# Altium schematic symbol library liang_SCH.SCHLIB: 92 symbols
Pins are listed as number, name and electrical type; pins without a type are passive.

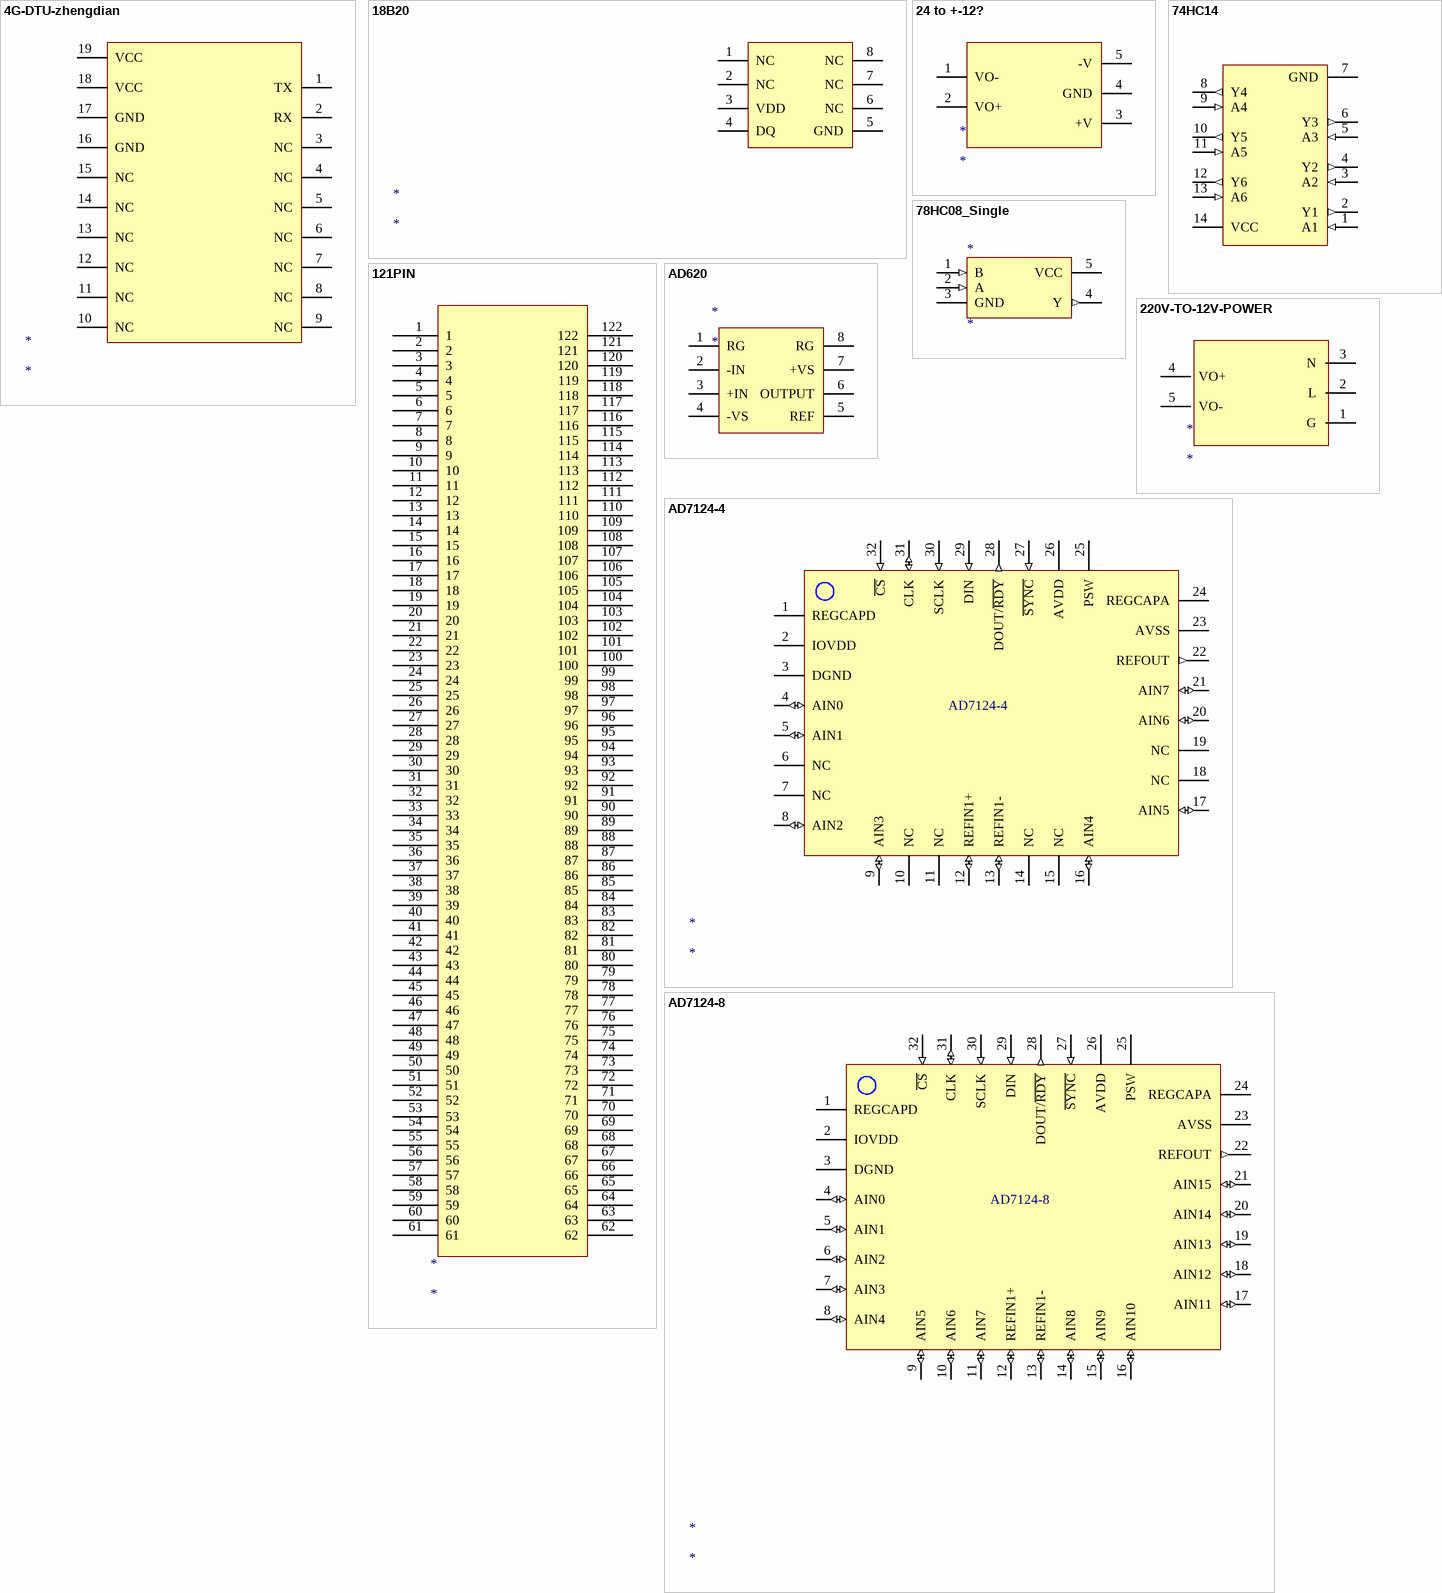
[diagram p0: symbols 4G-DTU-zhengdian to AD7124-8]

## 4G-DTU-zhengdian
designator *
pins: 1 TX (power), 2 RX (power), 3 NC (power), 4 NC (power), 5 NC (power), 6 NC (power), 7 NC (power), 8 NC (power), 9 NC (power), 10 NC (power), 11 NC (power), 12 NC (power), 13 NC (power), 14 NC (power), 15 NC (power), 16 GND (power), 17 GND (power), 18 VCC (power), 19 VCC (power)

## 18B20
designator *
pins: 1 NC (power), 2 NC (power), 3 VDD (power), 4 DQ (power), 5 GND (power), 6 NC (power), 7 NC (power), 8 NC (power)

## 24 to +-12?
designator *
pins: 1 VO- (power), 2 VO+ (power), 3 +V (power), 4 GND (power), 5 -V (power)

## 74HC14
designator *
pins: 1 A1 (in), 2 Y1 (out), 3 A2 (in), 4 Y2 (out), 5 A3 (in), 6 Y3 (out), 7 GND (power), 8 Y4 (out), 9 A4 (in), 10 Y5 (out), 11 A5 (in), 12 Y6 (out), 13 A6 (in), 14 VCC (power)

## 78HC08_Single
designator *
pins: 1 B (in), 2 A (in), 3 GND (power), 4 Y (out), 5 VCC (power)

## 121PIN
designator *
pins: 1 (power), 2 (power), 3 (power), 4 (power), 5 (power), 6 (power), 7 (power), 8 (power), 9 (power), 10 (power), 11 (power), 12 (power), 13 (power), 14 (power), 15 (power), 16 (power), 17 (power), 18 (power), 19 (power), 20 (power), 21 (power), 22 (power), 23 (power), 24 (power), 25 (power), 26 (power), 27 (power), 28 (power), 29 (power), 30 (power), 31 (power), 32 (power), 33 (power), 34 (power), 35 (power), 36 (power), 37 (power), 38 (power), 39 (power), 40 (power), 41 (power), 42 (power), 43 (power), 44 (power), 45 (power), 46 (power), 47 (power), 48 (power), 49 (power), 50 (power), 51 (power), 52 (power), 53 (power), 54 (power), 55 (power), 56 (power), 57 (power), 58 (power), 59 (power), 60 (power), 61 (power), 62 (power), 63 (power), 64 (power), 65 (power), 66 (power), 67 (power), 68 (power), 69 (power), 70 (power), 71 (power), 72 (power), 73 (power), 74 (power), 75 (power), 76 (power), 77 (power), 78 (power), 79 (power), 80 (power), 81 (power), 82 (power), 83 (power), 84 (power), 85 (power), 86 (power), 87 (power), 88 (power), 89 (power), 90 (power), 91 (power), 92 (power), 93 (power), 94 (power), 95 (power), 96 (power), 97 (power), 98 (power), 99 (power), 100 (power), 101 (power), 102 (power), 103 (power), 104 (power), 105 (power), 106 (power), 107 (power), 108 (power), 109 (power), 110 (power), 111 (power), 112 (power), 113 (power), 114 (power), 115 (power), 116 (power), 117 (power), 118 (power), 119 (power), 120 (power), 121 (power), 122 (power)

## 220V-TO-12V-POWER
designator *
pins: 1 G (power), 2 L (power), 3 N (power), 4 VO+ (power), 5 VO- (power)

## AD620
designator *
pins: 1 RG (power), 2 -IN (power), 3 +IN (power), 4 -VS (power), 5 REF (power), 6 OUTPUT (power), 7 +VS (power), 8 RG (power)

## AD7124-4
designator *
pins: 1 REGCAPD (power), 2 IOVDD (power), 3 DGND (power), 4 AIN0 (io), 5 AIN1 (io), 6 NC (oc), 7 NC (oc), 8 AIN2 (io), 9 AIN3 (io), 10 NC (oc), 11 NC (oc), 12 REFIN1+ (io), 13 REFIN1- (io), 14 NC (oc), 15 NC (oc), 16 AIN4 (io), 17 AIN5 (io), 18 NC (oc), 19 NC (oc), 20 AIN6 (io), 21 AIN7 (io), 22 REFOUT (out), 23 AVSS (power), 24 REGCAPA (power), 25 PSW (power), 26 AVDD (power), 27 ~{SYNC} (in), 28 DOUT/~{RDY} (out), 29 DIN (in), 30 SCLK (in), 31 CLK (io), 32 ~{CS} (in)

## AD7124-8
designator *
pins: 1 REGCAPD (power), 2 IOVDD (power), 3 DGND (power), 4 AIN0 (io), 5 AIN1 (io), 6 AIN2 (io), 7 AIN3 (io), 8 AIN4 (io), 9 AIN5 (io), 10 AIN6 (io), 11 AIN7 (io), 12 REFIN1+ (io), 13 REFIN1- (io), 14 AIN8 (io), 15 AIN9 (io), 16 AIN10 (io), 17 AIN11 (io), 18 AIN12 (io), 19 AIN13 (io), 20 AIN14 (io), 21 AIN15 (io), 22 REFOUT (out), 23 AVSS (power), 24 REGCAPA (power), 25 PSW (power), 26 AVDD (power), 27 ~{SYNC} (in), 28 DOUT/~{RDY} (out), 29 DIN (in), 30 SCLK (in), 31 CLK (io), 32 ~{CS} (in)

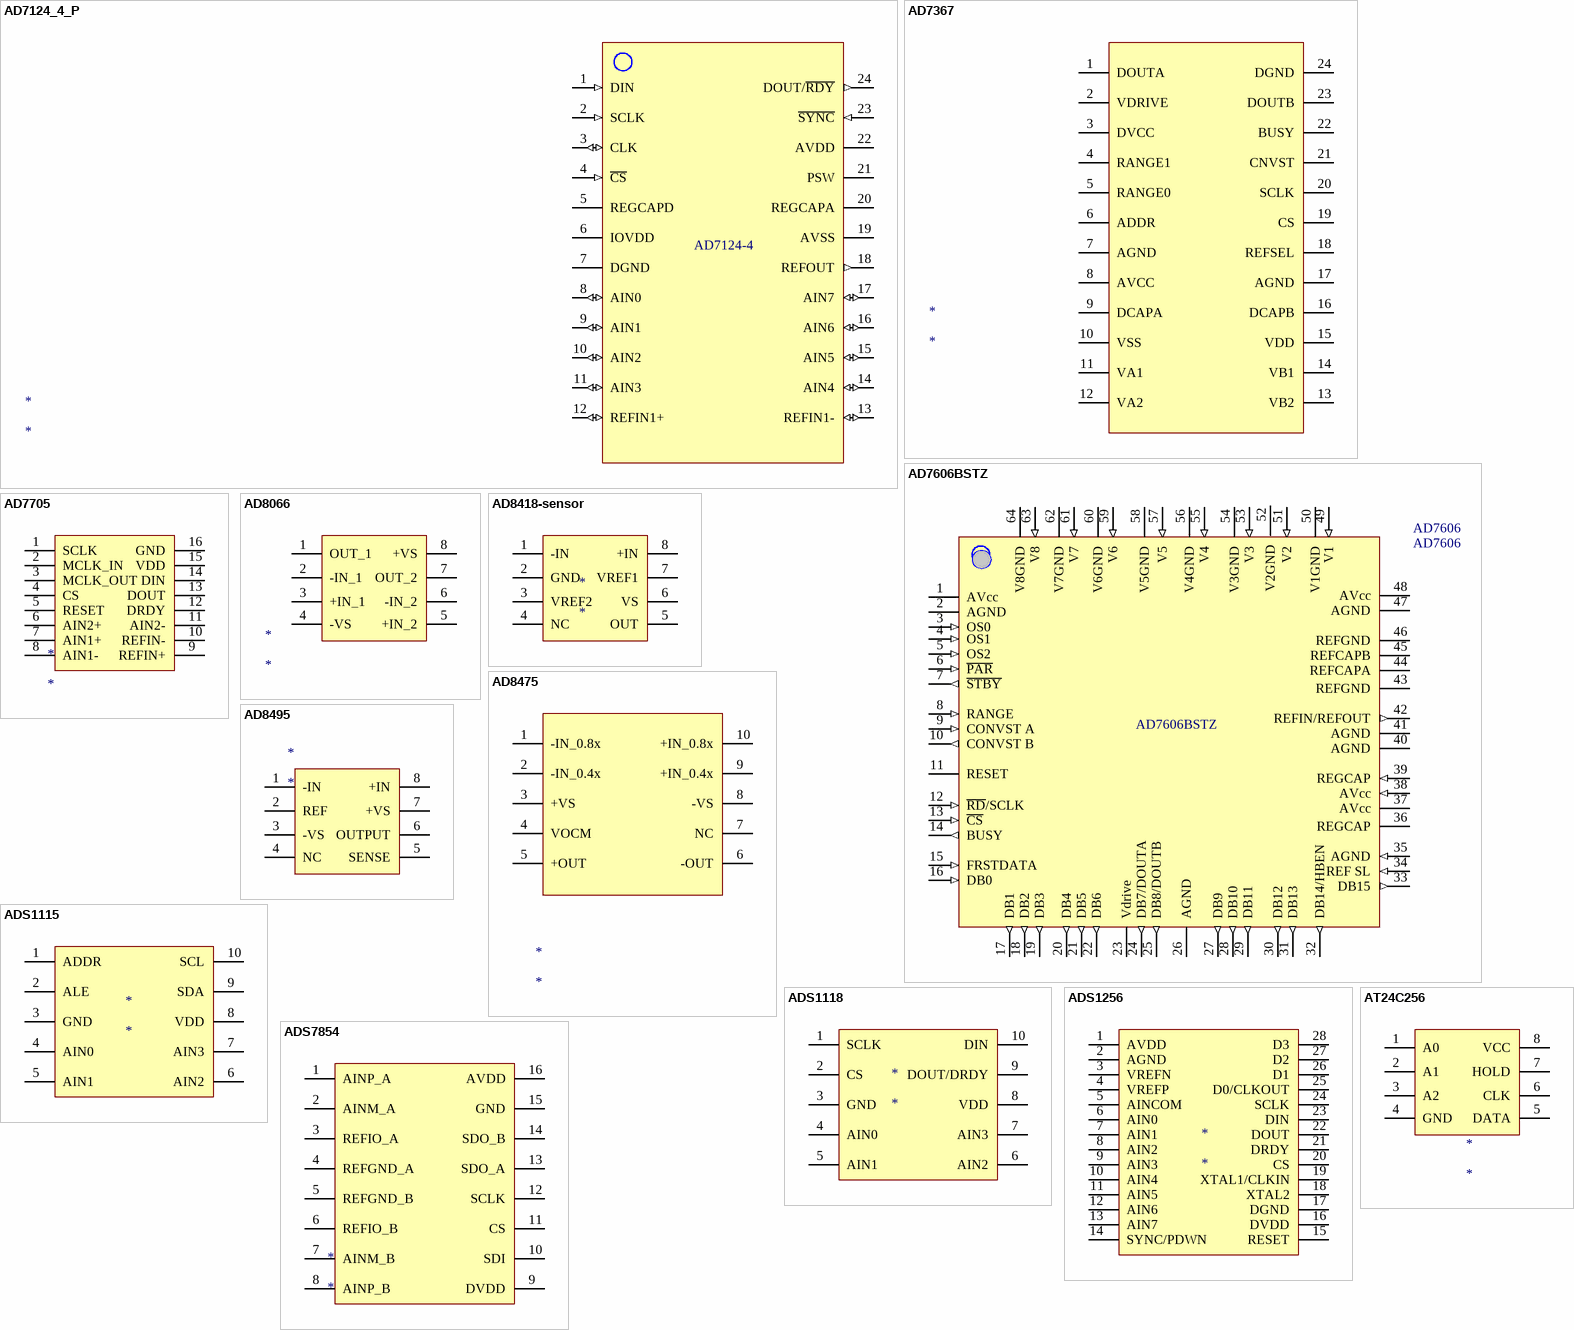
[diagram p1: symbols AD7124_4_P to AT24C256]

## AD7124_4_P
designator *
pins: 1 DIN (in), 2 SCLK (in), 3 CLK (io), 4 ~{CS} (in), 5 REGCAPD (power), 6 IOVDD (power), 7 DGND (power), 8 AIN0 (io), 9 AIN1 (io), 10 AIN2 (io), 11 AIN3 (io), 12 REFIN1+ (io), 13 REFIN1- (io), 14 AIN4 (io), 15 AIN5 (io), 16 AIN6 (io), 17 AIN7 (io), 18 REFOUT (out), 19 AVSS (power), 20 REGCAPA (power), 21 PSW (power), 22 AVDD (power), 23 ~{SYNC} (in), 24 DOUT/~{RDY} (out)
text: AD7124-4

## AD7367
designator *
pins: 1 DOUTA (power), 2 VDRIVE (power), 3 DVCC (power), 4 RANGE1 (power), 5 RANGE0 (power), 6 ADDR (power), 7 AGND (power), 8 AVCC (power), 9 DCAPA (power), 10 VSS (power), 11 VA1 (power), 12 VA2 (power), 13 VB2 (power), 14 VB1 (power), 15 VDD (power), 16 DCAPB (power), 17 AGND (power), 18 REFSEL (power), 19 CS (power), 20 SCLK (power), 21 CNVST (power), 22 BUSY (power), 23 DOUTB (power), 24 DGND (power)

## AD7606BSTZ
designator AD7606, comment AD7606
footprint STM32F103RCT6-64-0.5
pins: 1 AVcc (power), 2 AGND (power), 3 OS0 (in), 4 OS1 (in), 5 OS2 (in), 6 ~{PAR} (in), 7 ~{STBY} (out), 8 RANGE (in), 9 CONVST A (in), 10 CONVST B (out), 11 RESET (power), 12 ~{RD}/SCLK (in), 13 ~{CS} (in), 14 BUSY (out), 15 FRSTDATA (in), 16 DB0 (in), 17 DB1 (out), 18 DB2 (out), 19 DB3 (out), 20 DB4 (out), 21 DB5 (out), 22 DB6 (out), 23 Vdrive (power), 24 DB7/DOUTA (out), 25 DB8/DOUTB (out), 26 AGND (power), 27 DB9 (out), 28 DB10 (out), 29 DB11 (out), 30 DB12 (out), 31 DB13 (out), 32 DB14/HBEN (out), 33 DB15 (out), 34 REF SL (in), 35 AGND (in), 36 REGCAP (power), 37 AVcc (power), 38 AVcc (in), 39 REGCAP (in), 40 AGND (power), 41 AGND (power), 42 REFIN/REFOUT (out), 43 REFGND (power), 44 REFCAPA (power), 45 REFCAPB (power), 46 REFGND (power), 47 AGND (power), 48 AVcc (power), 49 V1 (in), 50 V1GND (power), 51 V2 (in), 52 V2GND (power), 53 V3 (in), 54 V3GND (power), 55 V4 (in), 56 V4GND (power), 57 V5 (in), 58 V5GND (power), 59 V6 (in), 60 V6GND (power), 61 V7 (in), 62 V7GND (power), 63 V8 (in), 64 V8GND (power)

## AD7705
designator *
pins: 1 SCLK (power), 2 MCLK_IN (power), 3 MCLK_OUT (power), 4 CS (power), 5 RESET (power), 6 AIN2+ (power), 7 AIN1+ (power), 8 AIN1- (power), 9 REFIN+ (power), 10 REFIN- (power), 11 AIN2- (power), 12 DRDY (power), 13 DOUT (power), 14 DIN (power), 15 VDD (power), 16 GND (power)

## AD8066
designator *
pins: 1 OUT_1 (power), 2 -IN_1 (power), 3 +IN_1 (power), 4 -VS (power), 5 +IN_2 (power), 6 -IN_2 (power), 7 OUT_2 (power), 8 +VS (power)

## AD8418-sensor
designator *
pins: 1 -IN (power), 2 GND (power), 3 VREF2 (power), 4 NC (power), 5 OUT (power), 6 VS (power), 7 VREF1 (power), 8 +IN (power)

## AD8475
designator *
pins: 1 -IN_0.8x (power), 2 -IN_0.4x (power), 3 +VS (power), 4 VOCM (power), 5 +OUT (power), 6 -OUT (power), 7 NC (power), 8 -VS (power), 9 +IN_0.4x (power), 10 +IN_0.8x (power)

## AD8495
designator *
pins: 1 -IN (power), 2 REF (power), 3 -VS (power), 4 NC (power), 5 SENSE (power), 6 OUTPUT (power), 7 +VS (power), 8 +IN (power)

## ADS1115
designator *
pins: 1 ADDR (power), 2 ALE (power), 3 GND (power), 4 AIN0 (power), 5 AIN1 (power), 6 AIN2 (power), 7 AIN3 (power), 8 VDD (power), 9 SDA (power), 10 SCL (power)

## ADS1118
designator *
pins: 1 SCLK (power), 2 CS (power), 3 GND (power), 4 AIN0 (power), 5 AIN1 (power), 6 AIN2 (power), 7 AIN3 (power), 8 VDD (power), 9 DOUT/DRDY (power), 10 DIN (power)

## ADS1256
designator *
pins: 1 AVDD (power), 2 AGND (power), 3 VREFN (power), 4 VREFP (power), 5 AINCOM (power), 6 AIN0 (power), 7 AIN1 (power), 8 AIN2 (power), 9 AIN3 (power), 10 AIN4 (power), 11 AIN5 (power), 12 AIN6 (power), 13 AIN7 (power), 14 SYNC/PDWN (power), 15 RESET (power), 16 DVDD (power), 17 DGND (power), 18 XTAL2 (power), 19 XTAL1/CLKIN (power), 20 CS (power), 21 DRDY (power), 22 DOUT (power), 23 DIN (power), 24 SCLK (power), 25 D0/CLKOUT (power), 26 D1 (power), 27 D2 (power), 28 D3 (power)

## ADS7854
designator *
pins: 1 AINP_A (power), 2 AINM_A (power), 3 REFIO_A (power), 4 REFGND_A (power), 5 REFGND_B (power), 6 REFIO_B (power), 7 AINM_B (power), 8 AINP_B (power), 9 DVDD (power), 10 SDI (power), 11 CS (power), 12 SCLK (power), 13 SDO_A (power), 14 SDO_B (power), 15 GND (power), 16 AVDD (power)

## AT24C256
designator *
pins: 1 A0 (power), 2 A1 (power), 3 A2 (power), 4 GND (power), 5 DATA (power), 6 CLK (power), 7 HOLD (power), 8 VCC (power)

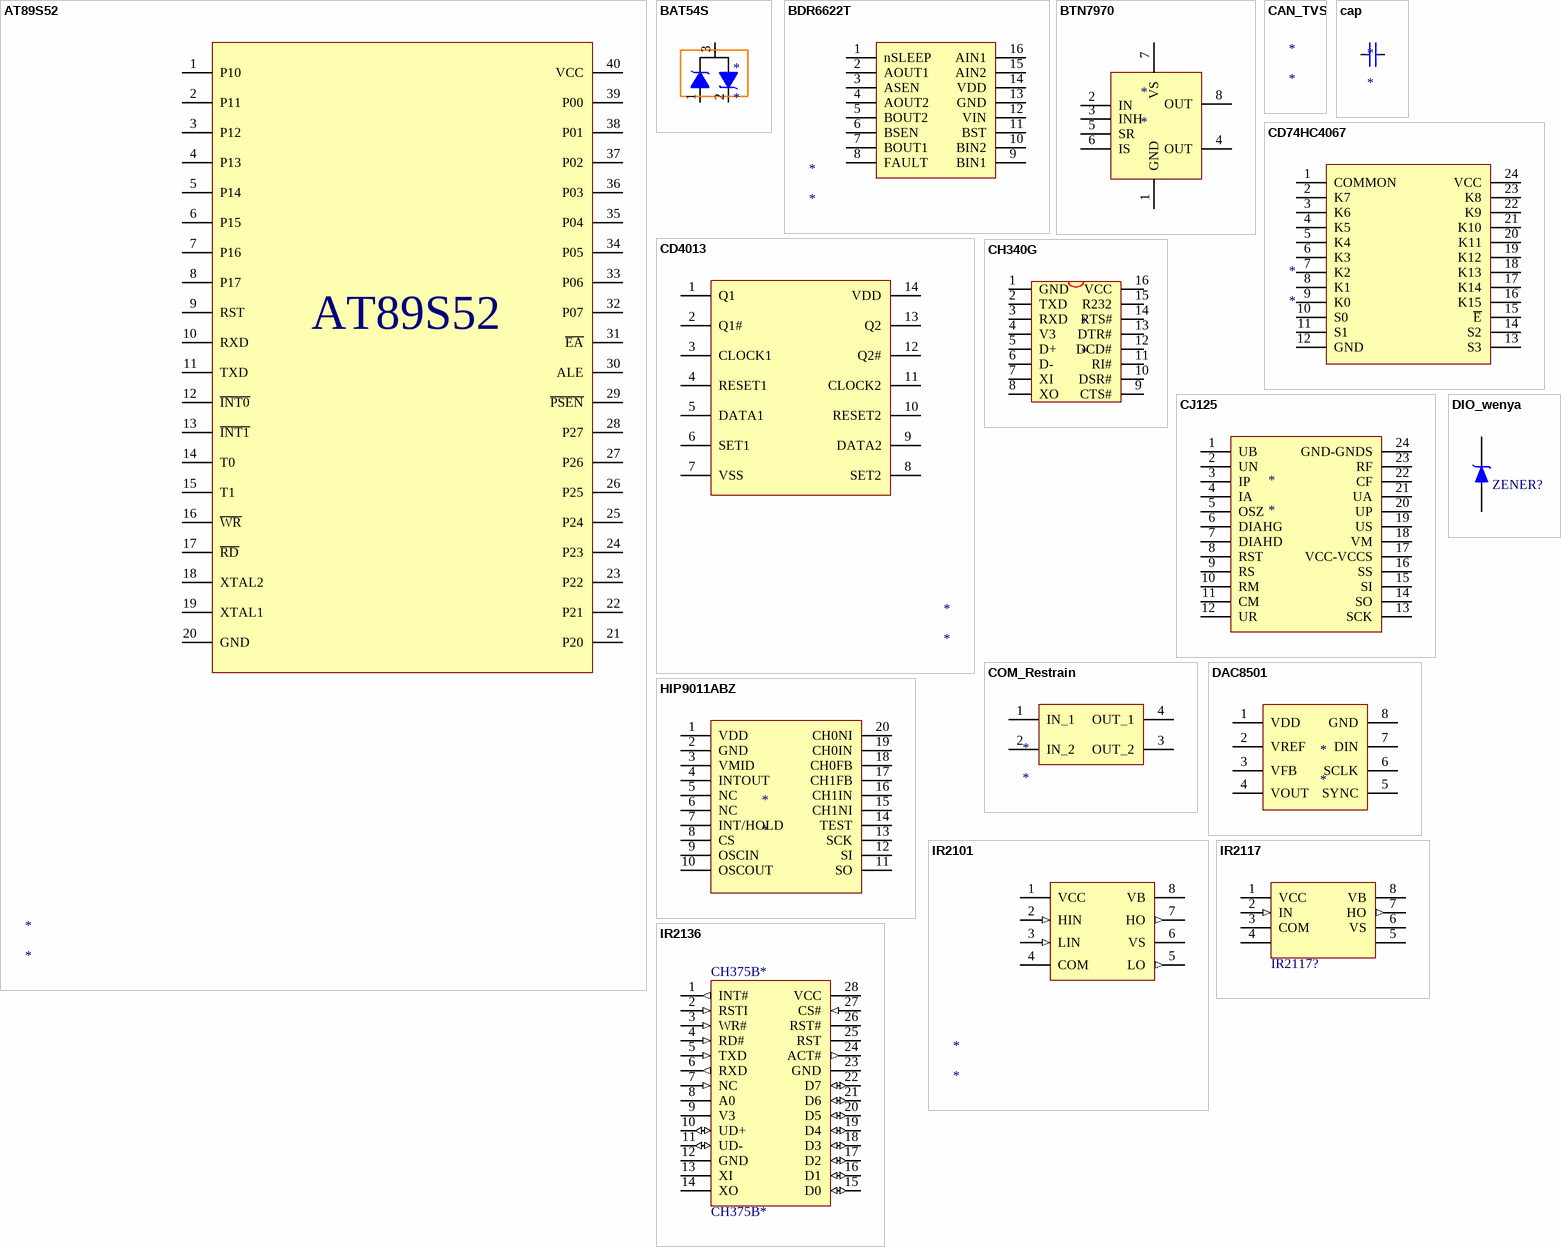
[diagram p2: symbols AT89S52 to IR2136]

## AT89S52
designator *
footprint AT89S52_DIP_40
pins: 1 P10 (power), 2 P11 (power), 3 P12 (power), 4 P13 (power), 5 P14 (power), 6 P15 (power), 7 P16 (power), 8 P17 (power), 9 RST (power), 10 RXD (power), 11 TXD (power), 12 ~{INT0} (power), 13 ~{INT1} (power), 14 T0 (power), 15 T1 (power), 16 ~{WR} (power), 17 ~{RD} (power), 18 XTAL2 (power), 19 XTAL1 (power), 20 GND (power), 21 P20 (power), 22 P21 (power), 23 P22 (power), 24 P23 (power), 25 P24 (power), 26 P25 (power), 27 P26 (power), 28 P27 (power), 29 ~{PSEN} (power), 30 ALE (power), 31 ~{EA} (power), 32 P07 (power), 33 P06 (power), 34 P05 (power), 35 P04 (power), 36 P03 (power), 37 P02 (power), 38 P01 (power), 39 P00 (power), 40 VCC (power)

## BAT54S
designator *
pins: 1, 2, 3

## BDR6622T
designator *
pins: 1 nSLEEP (power), 2 AOUT1 (power), 3 ASEN (power), 4 AOUT2 (power), 5 BOUT2 (power), 6 BSEN (power), 7 BOUT1 (power), 8 FAULT (power), 9 BIN1 (power), 10 BIN2 (power), 11 BST (power), 12 VIN (power), 13 GND (power), 14 VDD (power), 15 AIN2 (power), 16 AIN1 (power)

## BTN7970
designator *
pins: 1 GND (power), 2 IN (power), 3 INH (power), 4 OUT (power), 5 SR (power), 6 IS (power), 7 VS (power), 8 OUT (power)

## CAN_TVS
designator *

## cap
designator *
pins: 1, 2

## CD74HC4067
designator *
pins: 1 COMMON (power), 2 K7 (power), 3 K6 (power), 4 K5 (power), 5 K4 (power), 6 K3 (power), 7 K2 (power), 8 K1 (power), 9 K0 (power), 10 S0 (power), 11 S1 (power), 12 GND (power), 13 S3 (power), 14 S2 (power), 15 ~{E} (power), 16 K15 (power), 17 K14 (power), 18 K13 (power), 19 K12 (power), 20 K11 (power), 21 K10 (power), 22 K9 (power), 23 K8 (power), 24 VCC (power)

## CD4013
designator *
pins: 1 Q1 (power), 2 Q1# (power), 3 CLOCK1 (power), 4 RESET1 (power), 5 DATA1 (power), 6 SET1 (power), 7 VSS (power), 8 SET2 (power), 9 DATA2 (power), 10 RESET2 (power), 11 CLOCK2 (power), 12 Q2# (power), 13 Q2 (power), 14 VDD (power)

## CH340G
designator *
pins: 1 GND, 2 TXD, 3 RXD, 4 V3, 5 D+, 6 D-, 7 XI, 8 XO, 9 CTS#, 10 DSR#, 11 RI#, 12 DCD#, 13 DTR#, 14 RTS#, 15 R232, 16 VCC

## CJ125
designator *
pins: 1 UB (power), 2 UN (power), 3 IP (power), 4 IA (power), 5 OSZ (power), 6 DIAHG (power), 7 DIAHD (power), 8 RST (power), 9 RS (power), 10 RM (power), 11 CM (power), 12 UR (power), 13 SCK (power), 14 SO (power), 15 SI (power), 16 SS (power), 17 VCC-VCCS (power), 18 VM (power), 19 US (power), 20 UP (power), 21 UA (power), 22 CF (power), 23 RF (power), 24 GND-GNDS (power)

## COM_Restrain
designator *
footprint SMD_12*11_Induction
pins: 1 IN_1 (power), 2 IN_2 (power), 3 OUT_2 (power), 4 OUT_1 (power)

## DAC8501
designator *
pins: 1 VDD (power), 2 VREF (power), 3 VFB (power), 4 VOUT (power), 5 SYNC (power), 6 SCLK (power), 7 DIN (power), 8 GND (power)

## DIO_wenya
designator ZENER?  (value not drawn)
pins: 1 A, 3 K

## HIP9011ABZ
designator *
pins: 1 VDD (power), 2 GND (power), 3 VMID (power), 4 INTOUT (power), 5 NC (power), 6 NC (power), 7 INT/HOLD (power), 8 CS (power), 9 OSCIN (power), 10 OSCOUT (power), 11 SO (power), 12 SI (power), 13 SCK (power), 14 TEST (power), 15 CH1NI (power), 16 CH1IN (power), 17 CH1FB (power), 18 CH0FB (power), 19 CH0IN (power), 20 CH0NI (power)

## IR2101
designator *
pins: 1 VCC (power), 2 HIN (in), 3 LIN (in), 4 COM (power), 5 LO (out), 6 VS (power), 7 HO (out), 8 VB (power)

## IR2117
designator IR2117?  (value not drawn)
pins: 1 VCC (power), 2 IN (in), 3 COM (power), 4 (power), 5 (power), 6 VS (power), 7 HO (out), 8 VB (power)

## IR2136
designator CH375B*, comment CH375B*
footprint SOP28_300mil_CH340B
pins: 1 INT# (out), 2 RSTI (in), 3 WR# (in), 4 RD# (in), 5 TXD (in), 6 RXD (out), 7 NC (in), 8 A0 (power), 9 V3 (power), 10 UD+ (io), 11 UD- (io), 12 GND (power), 13 XI (power), 14 XO (power), 15 D0 (io), 16 D1 (io), 17 D2 (io), 18 D3 (io), 19 D4 (io), 20 D5 (io), 21 D6 (io), 22 D7 (io), 23 GND (power), 24 ACT# (out), 25 RST (power), 26 RST# (power), 27 CS# (in), 28 VCC (power)

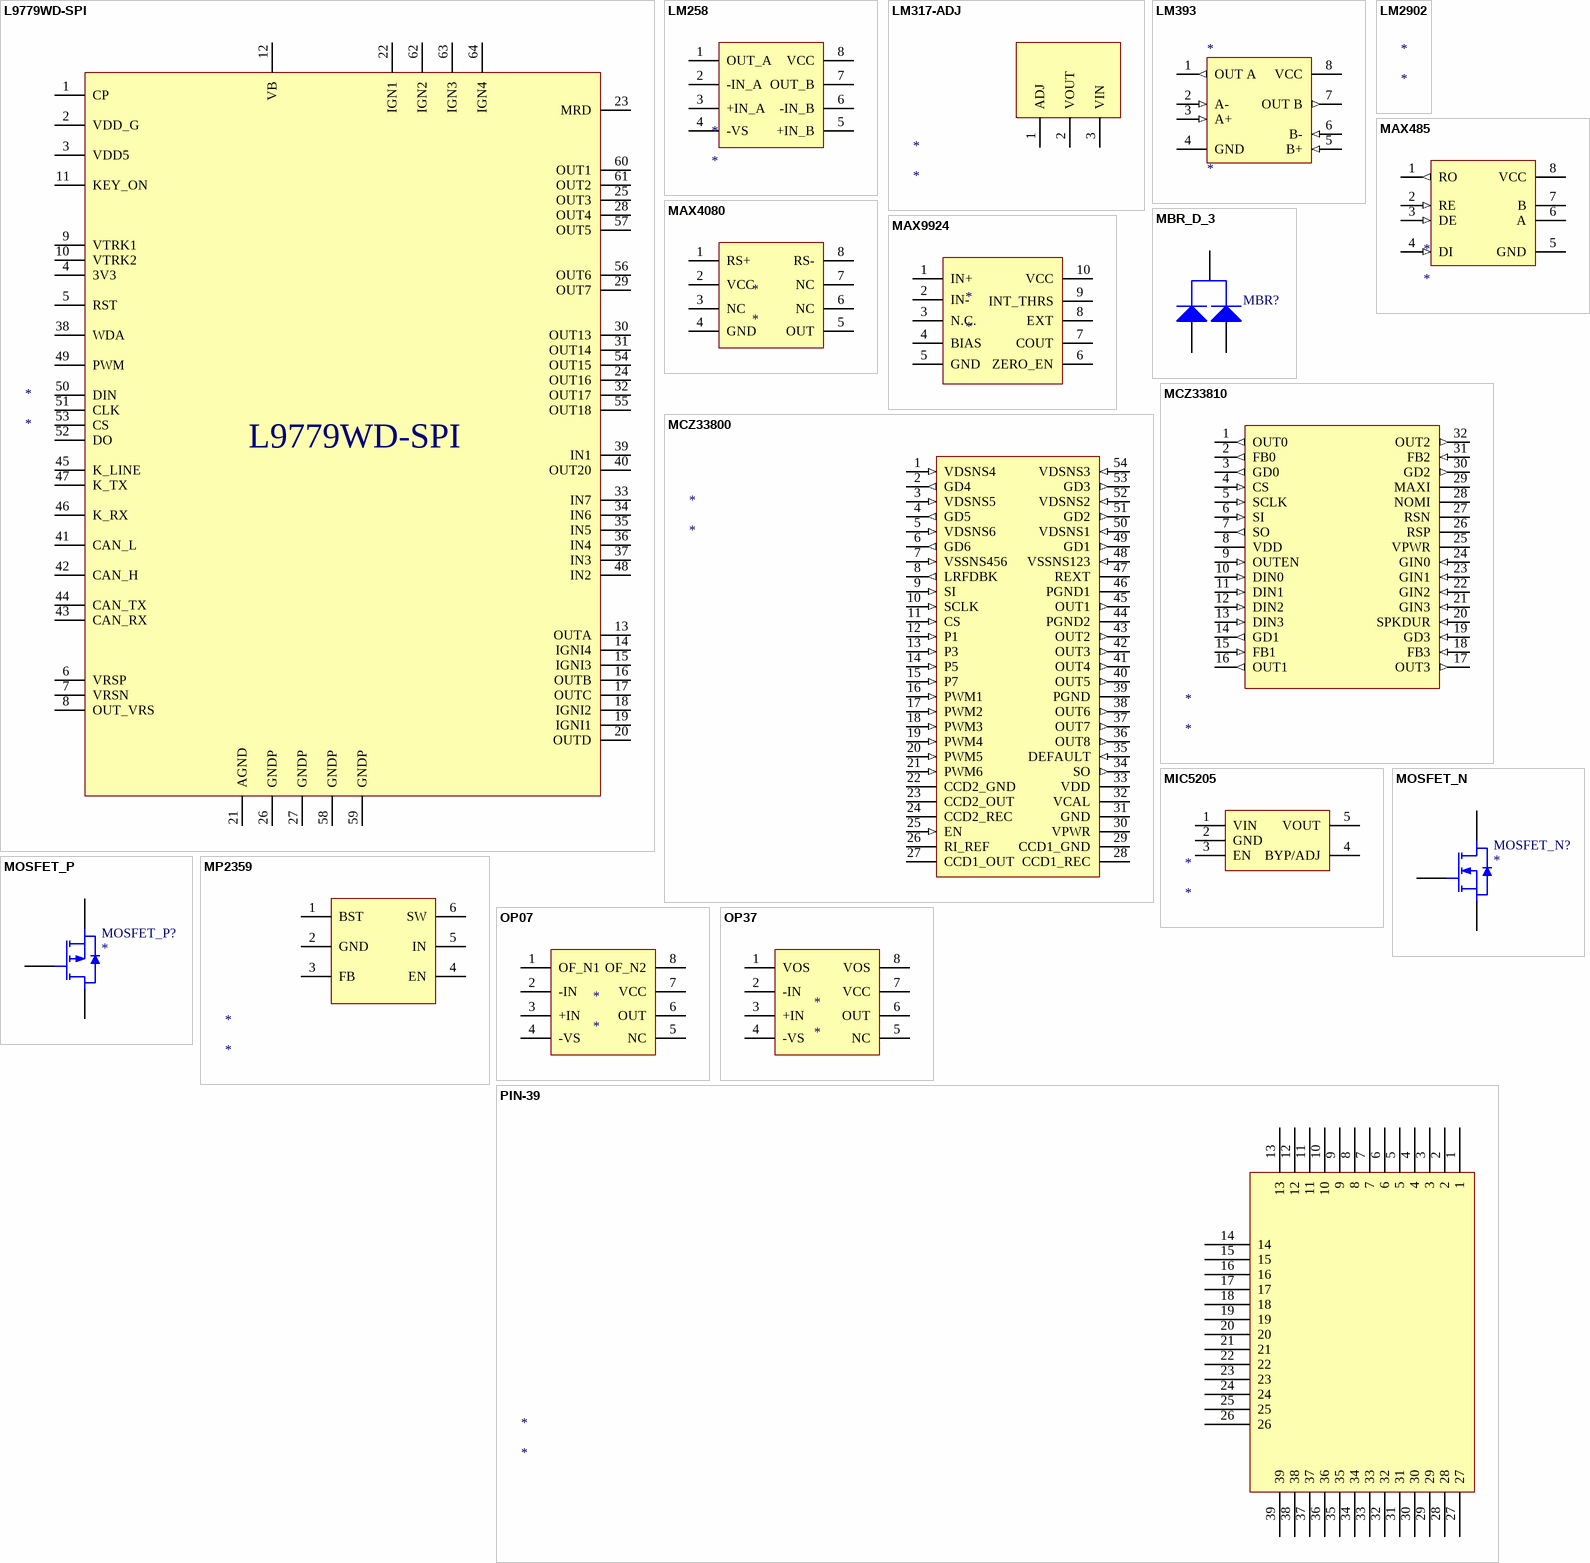
[diagram p3: symbols L9779WD-SPI to PIN-39]

## L9779WD-SPI
designator *
pins: 1 CP (power), 2 VDD_G (power), 3 VDD5 (power), 4 3V3 (power), 5 RST (power), 6 VRSP (power), 7 VRSN (power), 8 OUT_VRS (power), 9 VTRK1 (power), 10 VTRK2 (power), 11 KEY_ON (power), 12 VB (power), 13 OUTA (power), 14 IGNI4 (power), 15 IGNI3 (power), 16 OUTB (power), 17 OUTC (power), 18 IGNI2 (power), 19 IGNI1 (power), 20 OUTD (power), 21 AGND (power), 22 IGN1 (power), 23 MRD (power), 24 OUT16 (power), 25 OUT3 (power), 26 GNDP (power), 27 GNDP (power), 28 OUT4 (power), 29 OUT7 (power), 30 OUT13 (power), 31 OUT14 (power), 32 OUT17 (power), 33 IN7 (power), 34 IN6 (power), 35 IN5 (power), 36 IN4 (power), 37 IN3 (power), 38 WDA (power), 39 IN1 (power), 40 OUT20 (power), 41 CAN_L (power), 42 CAN_H (power), 43 CAN_RX (power), 44 CAN_TX (power), 45 K_LINE (power), 46 K_RX (power), 47 K_TX (power), 48 IN2 (power), 49 PWM (power), 50 DIN (power), 51 CLK (power), 52 DO (power), 53 CS (power), 54 OUT15 (power), 55 OUT18 (power), 56 OUT6 (power), 57 OUT5 (power), 58 GNDP (power), 59 GNDP (power), 60 OUT1 (power), 61 OUT2 (power), 62 IGN2 (power), 63 IGN3 (power), 64 IGN4 (power)

## LM258
designator *
pins: 1 OUT_A (power), 2 -IN_A (power), 3 +IN_A (power), 4 -VS (power), 5 +IN_B (power), 6 -IN_B (power), 7 OUT_B (power), 8 VCC (power)

## LM317-ADJ
designator *
pins: 1 ADJ (power), 2 VOUT (power), 3 VIN (power)

## LM393
designator *
pins: 1 OUT A (out), 2 A- (in), 3 A+ (in), 4 GND (power), 5 B+ (in), 6 B- (in), 7 OUT B (out), 8 VCC (power)

## LM2902
designator *

## MAX485
designator *
pins: 1 RO (out), 2 RE (in), 3 DE (in), 4 DI (in), 5 GND (power), 6 A (power), 7 B (power), 8 VCC (power)

## MAX4080
designator *
pins: 1 RS+ (power), 2 VCC (power), 3 NC (power), 4 GND (power), 5 OUT (power), 6 NC (power), 7 NC (power), 8 RS- (power)

## MAX9924
designator *
pins: 1 IN+ (power), 2 IN- (power), 3 N.C. (power), 4 BIAS (power), 5 GND (power), 6 ZERO_EN (power), 7 COUT (power), 8 EXT (power), 9 INT_THRS (power), 10 VCC (power)

## MBR_D_3
designator MBR?  (value not drawn)
pins: 1 A, 1 A, 2 K

## MCZ33800
designator *
pins: 1 VDSNS4 (in), 2 GD4 (out), 3 VDSNS5 (in), 4 GD5 (out), 5 VDSNS6 (in), 6 GD6 (out), 7 VSSNS456 (in), 8 LRFDBK (out), 9 SI (in), 10 SCLK (in), 11 CS (in), 12 P1 (in), 13 P3 (in), 14 P5 (in), 15 P7 (in), 16 PWM1 (in), 17 PWM2 (in), 18 PWM3 (in), 19 PWM4 (in), 20 PWM5 (in), 21 PWM6 (in), 22 CCD2_GND (power), 23 CCD2_OUT (power), 24 CCD2_REC (power), 25 EN (in), 26 RI_REF (power), 27 CCD1_OUT (power), 28 CCD1_REC (power), 29 CCD1_GND (power), 30 VPWR (power), 31 GND (power), 32 VCAL (power), 33 VDD (power), 34 SO (out), 35 DEFAULT (in), 36 OUT8 (out), 37 OUT7 (out), 38 OUT6 (out), 39 PGND (power), 40 OUT5 (out), 41 OUT4 (out), 42 OUT3 (out), 43 OUT2 (out), 44 PGND2 (power), 45 OUT1 (out), 46 PGND1 (power), 47 REXT (power), 48 VSSNS123 (in), 49 GD1 (out), 50 VDSNS1 (in), 51 GD2 (out), 52 VDSNS2 (in), 53 GD3 (out), 54 VDSNS3 (in)

## MCZ33810
designator *
pins: 1 OUT0 (out), 2 FB0 (out), 3 GD0 (out), 4 CS (in), 5 SCLK (in), 6 SI (in), 7 SO (out), 8 VDD (power), 9 OUTEN (in), 10 DIN0 (in), 11 DIN1 (in), 12 DIN2 (in), 13 DIN3 (in), 14 GD1 (out), 15 FB1 (in), 16 OUT1 (out), 17 OUT3 (out), 18 FB3 (in), 19 GD3 (in), 20 SPKDUR (in), 21 GIN3 (in), 22 GIN2 (in), 23 GIN1 (in), 24 GIN0 (in), 25 VPWR (power), 26 RSP (power), 27 RSN (power), 28 NOMI (power), 29 MAXI (power), 30 GD2 (out), 31 FB2 (in), 32 OUT2 (out)

## MIC5205
designator *
pins: 1 VIN (power), 2 GND (power), 3 EN (power), 4 BYP/ADJ (power), 5 VOUT (power)

## MOSFET_N
designator MOSFET_N?
pins: 1 G, 2 D, 3 S

## MOSFET_P
designator MOSFET_P?
pins: 1 D, 2 G, 3 S

## MP2359
designator *
pins: 1 BST (power), 2 GND (power), 3 FB (power), 4 EN (power), 5 IN (power), 6 SW (power)

## OP07
designator *
pins: 1 OF_N1 (power), 2 -IN (power), 3 +IN (power), 4 -VS (power), 5 NC (power), 6 OUT (power), 7 VCC (power), 8 OF_N2 (power)

## OP37
designator *
pins: 1 VOS (power), 2 -IN (power), 3 +IN (power), 4 -VS (power), 5 NC (power), 6 OUT (power), 7 VCC (power), 8 VOS (power)

## PIN-39
designator *
pins: 1 (power), 2 (power), 3 (power), 4 (power), 5 (power), 6 (power), 7 (power), 8 (power), 9 (power), 10 (power), 11 (power), 12 (power), 13 (power), 14 (power), 15 (power), 16 (power), 17 (power), 18 (power), 19 (power), 20 (power), 21 (power), 22 (power), 23 (power), 24 (power), 25 (power), 26 (power), 27 (power), 28 (power), 29 (power), 30 (power), 31 (power), 32 (power), 33 (power), 34 (power), 35 (power), 36 (power), 37 (power), 38 (power), 39 (power)

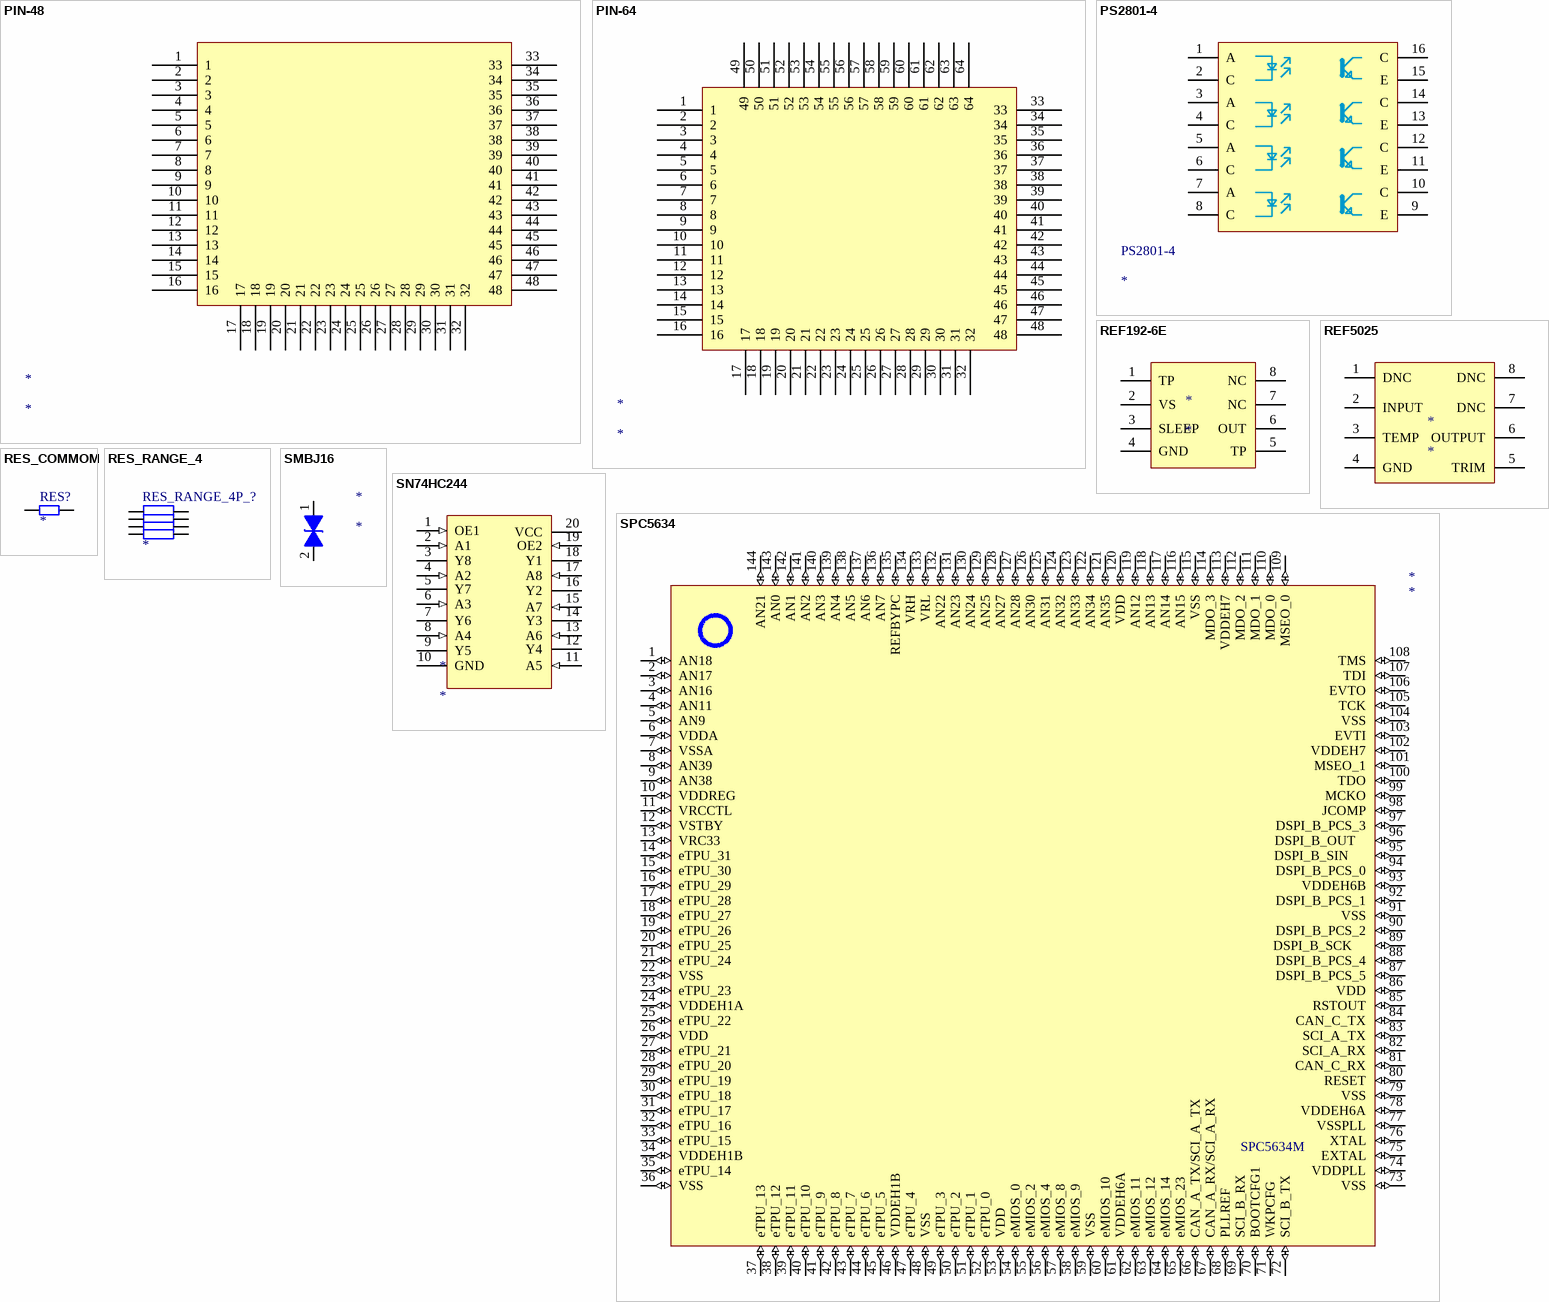
[diagram p4: symbols PIN-48 to SPC5634]

## PIN-48
designator *
pins: 1 (power), 2 (power), 3 (power), 4 (power), 5 (power), 6 (power), 7 (power), 8 (power), 9 (power), 10 (power), 11 (power), 12 (power), 13 (power), 14 (power), 15 (power), 16 (power), 17 (power), 18 (power), 19 (power), 20 (power), 21 (power), 22 (power), 23 (power), 24 (power), 25 (power), 26 (power), 27 (power), 28 (power), 29 (power), 30 (power), 31 (power), 32 (power), 33 (power), 34 (power), 35 (power), 36 (power), 37 (power), 38 (power), 39 (power), 40 (power), 41 (power), 42 (power), 43 (power), 44 (power), 45 (power), 46 (power), 47 (power), 48 (power)

## PIN-64
designator *
pins: 1 (power), 2 (power), 3 (power), 4 (power), 5 (power), 6 (power), 7 (power), 8 (power), 9 (power), 10 (power), 11 (power), 12 (power), 13 (power), 14 (power), 15 (power), 16 (power), 17 (power), 18 (power), 19 (power), 20 (power), 21 (power), 22 (power), 23 (power), 24 (power), 25 (power), 26 (power), 27 (power), 28 (power), 29 (power), 30 (power), 31 (power), 32 (power), 33 (power), 34 (power), 35 (power), 36 (power), 37 (power), 38 (power), 39 (power), 40 (power), 41 (power), 42 (power), 43 (power), 44 (power), 45 (power), 46 (power), 47 (power), 48 (power), 49 (power), 50 (power), 51 (power), 52 (power), 53 (power), 54 (power), 55 (power), 56 (power), 57 (power), 58 (power), 59 (power), 60 (power), 61 (power), 62 (power), 63 (power), 64 (power)

## PS2801-4
designator PS2801-4
pins: 1 A (power), 2 C (power), 3 A (power), 4 C (power), 5 A (power), 6 C (power), 7 A (power), 8 C (power), 9 E (power), 10 C (power), 11 E (power), 12 C (power), 13 E (power), 14 C (power), 15 E (power), 16 C (power)

## REF192-6E
designator *
pins: 1 TP (power), 2 VS (power), 3 SLEEP (power), 4 GND (power), 5 TP (power), 6 OUT (power), 7 NC (power), 8 NC (power)

## REF5025
designator *
pins: 1 DNC (power), 2 INPUT (power), 3 TEMP (power), 4 GND (power), 5 TRIM (power), 6 OUTPUT (power), 7 DNC (power), 8 DNC (power)

## RES_COMMOM
designator RES?
pins: 1, 2

## RES_RANGE_4
designator RES_RANGE_4P_?
pins: 1, 2, 3, 4, 5, 6, 7, 8

## SMBJ16
designator *
pins: 1 A, 2 B

## SN74HC244
designator *
pins: 1 OE1 (in), 2 A1 (in), 3 Y8 (power), 4 A2 (in), 5 Y7 (power), 6 A3 (in), 7 Y6 (power), 8 A4 (in), 9 Y5 (power), 10 GND (power), 11 A5 (in), 12 Y4 (power), 13 A6 (in), 14 Y3 (power), 15 A7 (in), 16 Y2 (power), 17 A8 (in), 18 Y1 (power), 19 OE2 (in), 20 VCC (power)

## SPC5634
designator *
pins: 1 AN18 (io), 2 AN17 (io), 3 AN16 (io), 4 AN11 (io), 5 AN9 (io), 6 VDDA (io), 7 VSSA (io), 8 AN39 (io), 9 AN38 (io), 10 VDDREG (io), 11 VRCCTL (io), 12 VSTBY (io), 13 VRC33 (io), 14 eTPU_31 (io), 15 eTPU_30 (io), 16 eTPU_29 (io), 17 eTPU_28 (io), 18 eTPU_27 (io), 19 eTPU_26 (io), 20 eTPU_25 (io), 21 eTPU_24 (io), 22 VSS (io), 23 eTPU_23 (io), 24 VDDEH1A (io), 25 eTPU_22 (io), 26 VDD (io), 27 eTPU_21 (io), 28 eTPU_20 (io), 29 eTPU_19 (io), 30 eTPU_18 (io), 31 eTPU_17 (io), 32 eTPU_16 (io), 33 eTPU_15 (io), 34 VDDEH1B (io), 35 eTPU_14 (io), 36 VSS (io), 37 eTPU_13 (io), 38 eTPU_12 (io), 39 eTPU_11 (io), 40 eTPU_10 (io), 41 eTPU_9 (io), 42 eTPU_8 (io), 43 eTPU_7 (io), 44 eTPU_6 (io), 45 eTPU_5 (io), 46 VDDEH1B (io), 47 eTPU_4 (io), 48 VSS (io), 49 eTPU_3 (io), 50 eTPU_2 (io), 51 eTPU_1 (io), 52 eTPU_0 (io), 53 VDD (io), 54 eMIOS_0 (io), 55 eMIOS_2 (io), 56 eMIOS_4 (io), 57 eMIOS_8 (io), 58 eMIOS_9 (io), 59 VSS (io), 60 eMIOS_10 (io), 61 VDDEH6A (io), 62 eMIOS_11 (io), 63 eMIOS_12 (io), 64 eMIOS_14 (io), 65 eMIOS_23 (io), 66 CAN_A_TX/SCI_A_TX (io), 67 CAN_A_RX/SCI_A_RX (io), 68 PLLREF (io), 69 SCI_B_RX (io), 70 BOOTCFG1 (io), 71 WKPCFG (io), 72 SCI_B_TX (io), 73 VSS (io), 74 VDDPLL (io), 75 EXTAL (io), 76 XTAL (io), 77 VSSPLL (io), 78 VDDEH6A (io), 79 VSS (io), 80 RESET (io), 81 CAN_C_RX (io), 82 SCI_A_RX (io), 83 SCI_A_TX (io), 84 CAN_C_TX (io), 85 RSTOUT (io), 86 VDD (io), 87 DSPI_B_PCS_5 (io), 88 DSPI_B_PCS_4 (io), 89 DSPI_B_SCK     (io), 90 DSPI_B_PCS_2 (io), 91 VSS (io), 92 DSPI_B_PCS_1 (io), 93 VDDEH6B (io), 94 DSPI_B_PCS_0 (io), 95 DSPI_B_SIN      (io), 96 DSPI_B_OUT    (io), 97 DSPI_B_PCS_3 (io), 98 JCOMP (io), 99 MCKO (io), 100 TDO (io), 101 MSEO_1 (io), 102 VDDEH7 (io), 103 EVTI (io), 104 VSS (io), 105 TCK (io), 106 EVTO (io), 107 TDI (io), 108 TMS (io), 109 MSEO_0 (io), 110 MDO_0 (io), 111 MDO_1 (io), 112 MDO_2 (io), 113 VDDEH7 (io), 114 MDO_3 (io), 115 VSS (io), 116 AN15 (io), 117 AN14 (io), 118 AN13 (io), 119 AN12 (io), 120 VDD (io), 121 AN35 (io), 122 AN34 (io), 123 AN33 (io), 124 AN32 (io), 125 AN31 (io), 126 AN30 (io), 127 AN28 (io), 128 AN27 (io), 129 AN25 (io), 130 AN24 (io), 131 AN23 (io), 132 AN22 (io), 133 VRL (io), 134 VRH (io), 135 REFBYPC (io), 136 AN7 (io), 137 AN6 (io), 138 AN5 (io), 139 AN4 (io), 140 AN3 (io), 141 AN2 (io), 142 AN1 (io), 143 AN0 (io), 144 AN21 (io)
text: SPC5634M

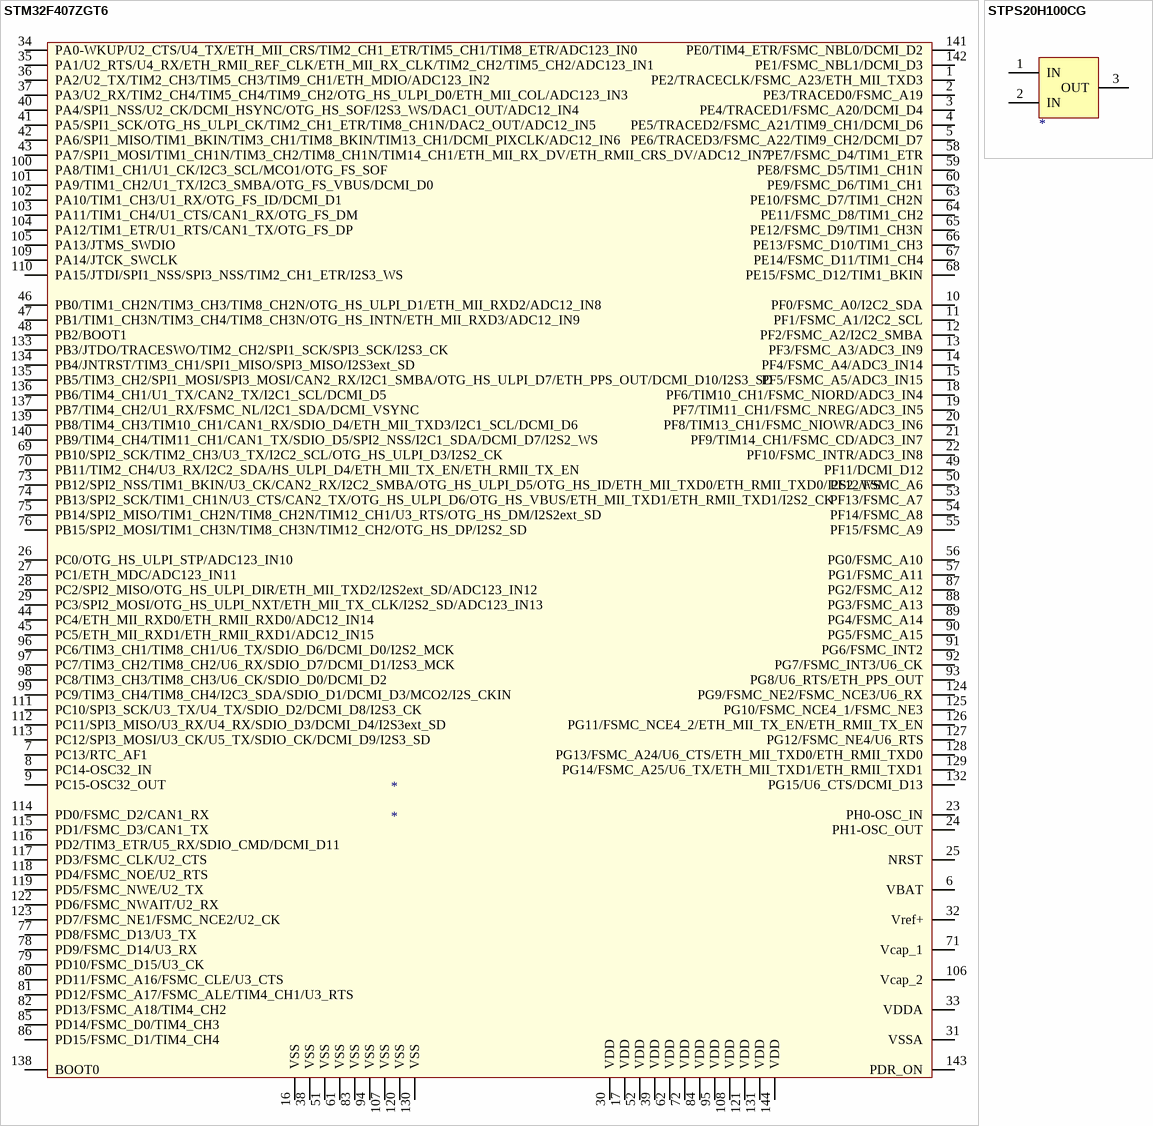
[diagram p5: symbols STM32F407ZGT6 to STPS20H100CG]

## STM32F407ZGT6
designator *
pins: 1 PE2/TRACECLK/FSMC_A23/ETH_MII_TXD3, 2 PE3/TRACED0/FSMC_A19, 3 PE4/TRACED1/FSMC_A20/DCMI_D4, 4 PE5/TRACED2/FSMC_A21/TIM9_CH1/DCMI_D6, 5 PE6/TRACED3/FSMC_A22/TIM9_CH2/DCMI_D7, 6 VBAT, 7 PC13/RTC_AF1, 8 PC14-OSC32_IN, 9 PC15-OSC32_OUT, 10 PF0/FSMC_A0/I2C2_SDA, 11 PF1/FSMC_A1/I2C2_SCL, 12 PF2/FSMC_A2/I2C2_SMBA, 13 PF3/FSMC_A3/ADC3_IN9, 14 PF4/FSMC_A4/ADC3_IN14, 15 PF5/FSMC_A5/ADC3_IN15, 16 VSS, 17 VDD, 18 PF6/TIM10_CH1/FSMC_NIORD/ADC3_IN4, 19 PF7/TIM11_CH1/FSMC_NREG/ADC3_IN5, 20 PF8/TIM13_CH1/FSMC_NIOWR/ADC3_IN6, 21 PF9/TIM14_CH1/FSMC_CD/ADC3_IN7, 22 PF10/FSMC_INTR/ADC3_IN8, 23 PH0-OSC_IN, 24 PH1-OSC_OUT, 25 NRST, 26 PC0/OTG_HS_ULPI_STP/ADC123_IN10, 27 PC1/ETH_MDC/ADC123_IN11, 28 PC2/SPI2_MISO/OTG_HS_ULPI_DIR/ETH_MII_TXD2/I2S2ext_SD/ADC123_IN12, 29 PC3/SPI2_MOSI/OTG_HS_ULPI_NXT/ETH_MII_TX_CLK/I2S2_SD/ADC123_IN13, 30 VDD, 31 VSSA, 32 Vref+, 33 VDDA, 34 PA0-WKUP/U2_CTS/U4_TX/ETH_MII_CRS/TIM2_CH1_ETR/TIM5_CH1/TIM8_ETR/ADC123_IN0, 35 PA1/U2_RTS/U4_RX/ETH_RMII_REF_CLK/ETH_MII_RX_CLK/TIM2_CH2/TIM5_CH2/ADC123_IN1, 36 PA2/U2_TX/TIM2_CH3/TIM5_CH3/TIM9_CH1/ETH_MDIO/ADC123_IN2, 37 PA3/U2_RX/TIM2_CH4/TIM5_CH4/TIM9_CH2/OTG_HS_ULPI_D0/ETH_MII_COL/ADC123_IN3, 38 VSS, 39 VDD, 40 PA4/SPI1_NSS/U2_CK/DCMI_HSYNC/OTG_HS_SOF/I2S3_WS/DAC1_OUT/ADC12_IN4, 41 PA5/SPI1_SCK/OTG_HS_ULPI_CK/TIM2_CH1_ETR/TIM8_CH1N/DAC2_OUT/ADC12_IN5, 42 PA6/SPI1_MISO/TIM1_BKIN/TIM3_CH1/TIM8_BKIN/TIM13_CH1/DCMI_PIXCLK/ADC12_IN6, 43 PA7/SPI1_MOSI/TIM1_CH1N/TIM3_CH2/TIM8_CH1N/TIM14_CH1/ETH_MII_RX_DV/ETH_RMII_CRS_DV/ADC12_IN7, 44 PC4/ETH_MII_RXD0/ETH_RMII_RXD0/ADC12_IN14, 45 PC5/ETH_MII_RXD1/ETH_RMII_RXD1/ADC12_IN15, 46 PB0/TIM1_CH2N/TIM3_CH3/TIM8_CH2N/OTG_HS_ULPI_D1/ETH_MII_RXD2/ADC12_IN8, 47 PB1/TIM1_CH3N/TIM3_CH4/TIM8_CH3N/OTG_HS_INTN/ETH_MII_RXD3/ADC12_IN9, 48 PB2/BOOT1, 49 PF11/DCMI_D12, 50 PF12/FSMC_A6, 51 VSS, 52 VDD, 53 PF13/FSMC_A7, 54 PF14/FSMC_A8, 55 PF15/FSMC_A9, 56 PG0/FSMC_A10, 57 PG1/FSMC_A11, 58 PE7/FSMC_D4/TIM1_ETR, 59 PE8/FSMC_D5/TIM1_CH1N, 60 PE9/FSMC_D6/TIM1_CH1, 61 VSS, 62 VDD, 63 PE10/FSMC_D7/TIM1_CH2N, 64 PE11/FSMC_D8/TIM1_CH2, 65 PE12/FSMC_D9/TIM1_CH3N, 66 PE13/FSMC_D10/TIM1_CH3, 67 PE14/FSMC_D11/TIM1_CH4, 68 PE15/FSMC_D12/TIM1_BKIN, 69 PB10/SPI2_SCK/TIM2_CH3/U3_TX/I2C2_SCL/OTG_HS_ULPI_D3/I2S2_CK, 70 PB11/TIM2_CH4/U3_RX/I2C2_SDA/HS_ULPI_D4/ETH_MII_TX_EN/ETH_RMII_TX_EN, 71 Vcap_1, 72 VDD, 73 PB12/SPI2_NSS/TIM1_BKIN/U3_CK/CAN2_RX/I2C2_SMBA/OTG_HS_ULPI_D5/OTG_HS_ID/ETH_MII_TXD0/ETH_RMII_TXD0/I2S2_WS, 74 PB13/SPI2_SCK/TIM1_CH1N/U3_CTS/CAN2_TX/OTG_HS_ULPI_D6/OTG_HS_VBUS/ETH_MII_TXD1/ETH_RMII_TXD1/I2S2_CK, 75 PB14/SPI2_MISO/TIM1_CH2N/TIM8_CH2N/TIM12_CH1/U3_RTS/OTG_HS_DM/I2S2ext_SD, 76 PB15/SPI2_MOSI/TIM1_CH3N/TIM8_CH3N/TIM12_CH2/OTG_HS_DP/I2S2_SD, 77 PD8/FSMC_D13/U3_TX, 78 PD9/FSMC_D14/U3_RX, 79 PD10/FSMC_D15/U3_CK, 80 PD11/FSMC_A16/FSMC_CLE/U3_CTS, 81 PD12/FSMC_A17/FSMC_ALE/TIM4_CH1/U3_RTS, 82 PD13/FSMC_A18/TIM4_CH2, 83 VSS, 84 VDD, 85 PD14/FSMC_D0/TIM4_CH3, 86 PD15/FSMC_D1/TIM4_CH4, 87 PG2/FSMC_A12, 88 PG3/FSMC_A13, 89 PG4/FSMC_A14, 90 PG5/FSMC_A15, 91 PG6/FSMC_INT2, 92 PG7/FSMC_INT3/U6_CK, 93 PG8/U6_RTS/ETH_PPS_OUT, 94 VSS, 95 VDD, 96 PC6/TIM3_CH1/TIM8_CH1/U6_TX/SDIO_D6/DCMI_D0/I2S2_MCK, 97 PC7/TIM3_CH2/TIM8_CH2/U6_RX/SDIO_D7/DCMI_D1/I2S3_MCK, 98 PC8/TIM3_CH3/TIM8_CH3/U6_CK/SDIO_D0/DCMI_D2, 99 PC9/TIM3_CH4/TIM8_CH4/I2C3_SDA/SDIO_D1/DCMI_D3/MCO2/I2S_CKIN, 100 PA8/TIM1_CH1/U1_CK/I2C3_SCL/MCO1/OTG_FS_SOF, 101 PA9/TIM1_CH2/U1_TX/I2C3_SMBA/OTG_FS_VBUS/DCMI_D0, 102 PA10/TIM1_CH3/U1_RX/OTG_FS_ID/DCMI_D1, 103 PA11/TIM1_CH4/U1_CTS/CAN1_RX/OTG_FS_DM, 104 PA12/TIM1_ETR/U1_RTS/CAN1_TX/OTG_FS_DP, 105 PA13/JTMS_SWDIO, 106 Vcap_2, 107 VSS, 108 VDD, 109 PA14/JTCK_SWCLK, 110 PA15/JTDI/SPI1_NSS/SPI3_NSS/TIM2_CH1_ETR/I2S3_WS, 111 PC10/SPI3_SCK/U3_TX/U4_TX/SDIO_D2/DCMI_D8/I2S3_CK, 112 PC11/SPI3_MISO/U3_RX/U4_RX/SDIO_D3/DCMI_D4/I2S3ext_SD, 113 PC12/SPI3_MOSI/U3_CK/U5_TX/SDIO_CK/DCMI_D9/I2S3_SD, 114 PD0/FSMC_D2/CAN1_RX, 115 PD1/FSMC_D3/CAN1_TX, 116 PD2/TIM3_ETR/U5_RX/SDIO_CMD/DCMI_D11, 117 PD3/FSMC_CLK/U2_CTS, 118 PD4/FSMC_NOE/U2_RTS, 119 PD5/FSMC_NWE/U2_TX, 120 VSS, 121 VDD, 122 PD6/FSMC_NWAIT/U2_RX, 123 PD7/FSMC_NE1/FSMC_NCE2/U2_CK, 124 PG9/FSMC_NE2/FSMC_NCE3/U6_RX, 125 PG10/FSMC_NCE4_1/FSMC_NE3, 126 PG11/FSMC_NCE4_2/ETH_MII_TX_EN/ETH_RMII_TX_EN, 127 PG12/FSMC_NE4/U6_RTS, 128 PG13/FSMC_A24/U6_CTS/ETH_MII_TXD0/ETH_RMII_TXD0, 129 PG14/FSMC_A25/U6_TX/ETH_MII_TXD1/ETH_RMII_TXD1, 130 VSS, 131 VDD, 132 PG15/U6_CTS/DCMI_D13, 133 PB3/JTDO/TRACESWO/TIM2_CH2/SPI1_SCK/SPI3_SCK/I2S3_CK, 134 PB4/JNTRST/TIM3_CH1/SPI1_MISO/SPI3_MISO/I2S3ext_SD, 135 PB5/TIM3_CH2/SPI1_MOSI/SPI3_MOSI/CAN2_RX/I2C1_SMBA/OTG_HS_ULPI_D7/ETH_PPS_OUT/DCMI_D10/I2S3_SD, 136 PB6/TIM4_CH1/U1_TX/CAN2_TX/I2C1_SCL/DCMI_D5, 137 PB7/TIM4_CH2/U1_RX/FSMC_NL/I2C1_SDA/DCMI_VSYNC, 138 BOOT0, 139 PB8/TIM4_CH3/TIM10_CH1/CAN1_RX/SDIO_D4/ETH_MII_TXD3/I2C1_SCL/DCMI_D6, 140 PB9/TIM4_CH4/TIM11_CH1/CAN1_TX/SDIO_D5/SPI2_NSS/I2C1_SDA/DCMI_D7/I2S2_WS, 141 PE0/TIM4_ETR/FSMC_NBL0/DCMI_D2, 142 PE1/FSMC_NBL1/DCMI_D3, 143 PDR_ON, 144 VDD

## STPS20H100CG
designator ?
pins: 1 IN (power), 2 IN (power), 3 OUT (power)

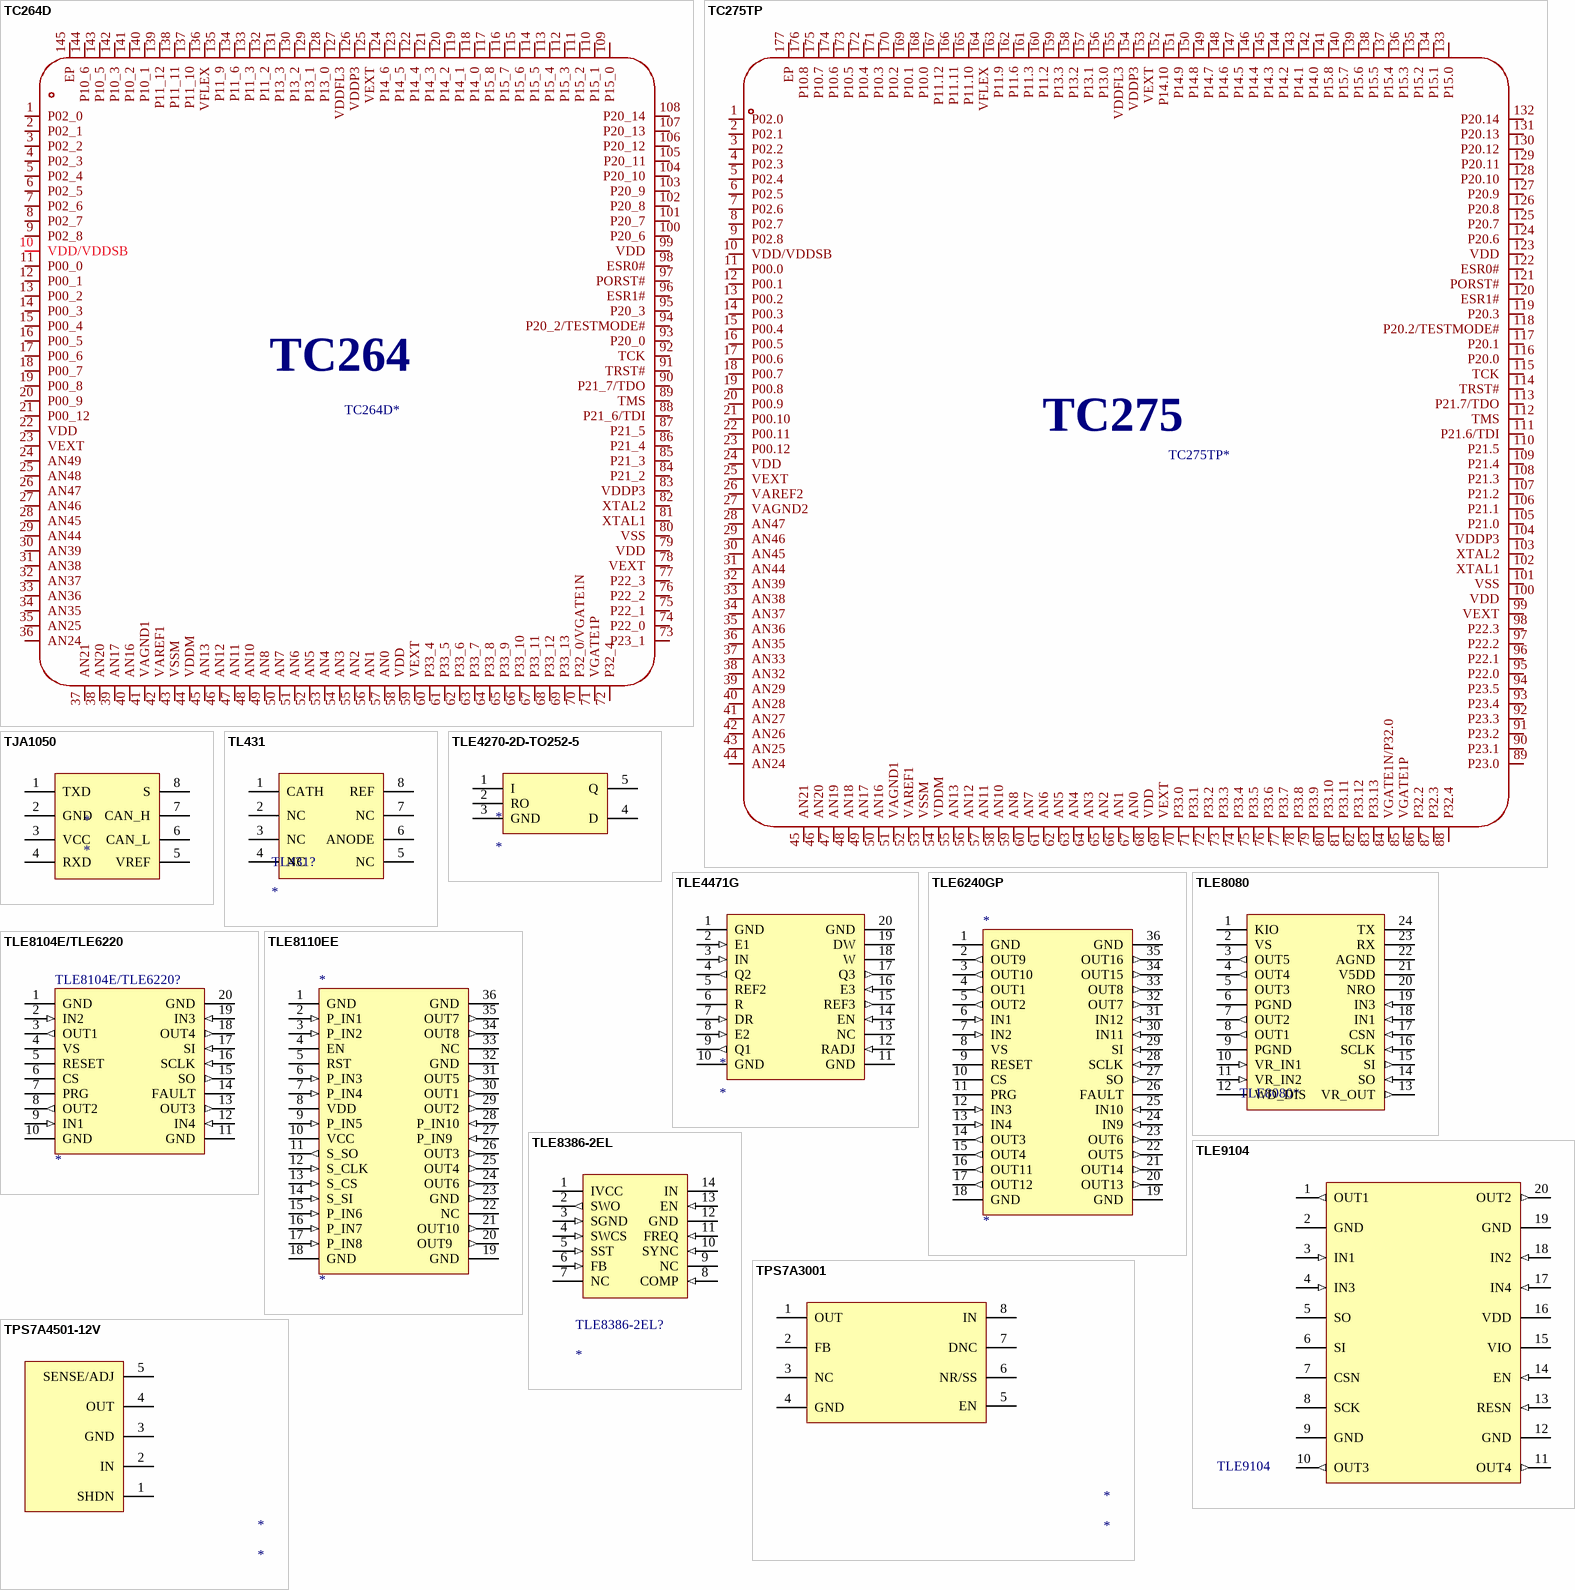
[diagram p6: symbols TC264D to TPS7A4501-12V]

## TC264D
designator TC264D*  (value not drawn)
footprint TC264D-LQFP144
pins: 1 P02_0, 2 P02_1, 3 P02_2, 4 P02_3, 5 P02_4, 6 P02_5, 7 P02_6, 8 P02_7, 9 P02_8, 10 VDD/VDDSB, 11 P00_0, 12 P00_1, 13 P00_2, 14 P00_3, 15 P00_4, 16 P00_5, 17 P00_6, 18 P00_7, 19 P00_8, 20 P00_9, 21 P00_12, 22 VDD, 23 VEXT, 24 AN49, 25 AN48, 26 AN47, 27 AN46, 28 AN45, 29 AN44, 30 AN39, 31 AN38, 32 AN37, 33 AN36, 34 AN35, 35 AN25, 36 AN24, 37 AN21, 38 AN20, 39 AN17, 40 AN16, 41 VAGND1, 42 VAREF1, 43 VSSM, 44 VDDM, 45 AN13, 46 AN12, 47 AN11, 48 AN10, 49 AN8, 50 AN7, 51 AN6, 52 AN5, 53 AN4, 54 AN3, 55 AN2, 56 AN1, 57 AN0, 58 VDD, 59 VEXT, 60 P33_4, 61 P33_5, 62 P33_6, 63 P33_7, 64 P33_8, 65 P33_9, 66 P33_10, 67 P33_11, 68 P33_12, 69 P33_13, 70 P32_0/VGATE1N, 71 VGATE1P, 72 P32_4, 73 P23_1, 74 P22_0, 75 P22_1, 76 P22_2, 77 P22_3, 78 VEXT, 79 VDD, 80 VSS, 81 XTAL1, 82 XTAL2, 83 VDDP3, 84 P21_2, 85 P21_3, 86 P21_4, 87 P21_5, 88 P21_6/TDI, 89 TMS, 90 P21_7/TDO, 91 TRST#, 92 TCK, 93 P20_0, 94 P20_2/TESTMODE#, 95 P20_3, 96 ESR1#, 97 PORST#, 98 ESR0#, 99 VDD, 100 P20_6, 101 P20_7, 102 P20_8, 103 P20_9, 104 P20_10, 105 P20_11, 106 P20_12, 107 P20_13, 108 P20_14, 109 P15_0, 110 P15_1, 111 P15_2, 112 P15_3, 113 P15_4, 114 P15_5, 115 P15_6, 116 P15_7, 117 P15_8, 118 P14_0, 119 P14_1, 120 P14_2, 121 P14_3, 122 P14_4, 123 P14_5, 124 P14_6, 125 VEXT, 126 VDDP3, 127 VDDFL3, 128 P13_0, 129 P13_1, 130 P13_2, 131 P13_3, 132 P11_2, 133 P11_3, 134 P11_6, 135 P11_9, 136 VFLEX, 137 P11_10, 138 P11_11, 139 P11_12, 140 P10_1, 141 P10_2, 142 P10_3, 143 P10_5, 144 P10_6, 145 EP
text: TC264

## TC275TP
designator TC275TP*  (value not drawn)
footprint TC275TP-LQFP176
pins: 1 P02.0, 2 P02.1, 3 P02.2, 4 P02.3, 5 P02.4, 6 P02.5, 7 P02.6, 8 P02.7, 9 P02.8, 10 VDD/VDDSB, 11 P00.0, 12 P00.1, 13 P00.2, 14 P00.3, 15 P00.4, 16 P00.5, 17 P00.6, 18 P00.7, 19 P00.8, 20 P00.9, 21 P00.10, 22 P00.11, 23 P00.12, 24 VDD, 25 VEXT, 26 VAREF2, 27 VAGND2, 28 AN47, 29 AN46, 30 AN45, 31 AN44, 32 AN39, 33 AN38, 34 AN37, 35 AN36, 36 AN35, 37 AN33, 38 AN32, 39 AN29, 40 AN28, 41 AN27, 42 AN26, 43 AN25, 44 AN24, 45 AN21, 46 AN20, 47 AN19, 48 AN18, 49 AN17, 50 AN16, 51 VAGND1, 52 VAREF1, 53 VSSM, 54 VDDM, 55 AN13, 56 AN12, 57 AN11, 58 AN10, 59 AN8, 60 AN7, 61 AN6, 62 AN5, 63 AN4, 64 AN3, 65 AN2, 66 AN1, 67 AN0, 68 VDD, 69 VEXT, 70 P33.0, 71 P33.1, 72 P33.2, 73 P33.3, 74 P33.4, 75 P33.5, 76 P33.6, 77 P33.7, 78 P33.8, 79 P33.9, 80 P33.10, 81 P33.11, 82 P33.12, 83 P33.13, 84 VGATE1N/P32.0, 85 VGATE1P, 86 P32.2, 87 P32.3, 88 P32.4, 89 P23.0, 90 P23.1, 91 P23.2, 92 P23.3, 93 P23.4, 94 P23.5, 95 P22.0, 96 P22.1, 97 P22.2, 98 P22.3, 99 VEXT, 100 VDD, 101 VSS, 102 XTAL1, 103 XTAL2, 104 VDDP3, 105 P21.0, 106 P21.1, 107 P21.2, 108 P21.3, 109 P21.4, 110 P21.5, 111 P21.6/TDI, 112 TMS, 113 P21.7/TDO, 114 TRST#, 115 TCK, 116 P20.0, 117 P20.1, 118 P20.2/TESTMODE#, 119 P20.3, 120 ESR1#, 121 PORST#, 122 ESR0#, 123 VDD, 124 P20.6, 125 P20.7, 126 P20.8, 127 P20.9, 128 P20.10, 129 P20.11, 130 P20.12, 131 P20.13, 132 P20.14, 133 P15.0, 134 P15.1, 135 P15.2, 136 P15.3, 137 P15.4, 138 P15.5, 139 P15.6, 140 P15.7, 141 P15.8, 142 P14.0, 143 P14.1, 144 P14.2, 145 P14.3, 146 P14.4, 147 P14.5, 148 P14.6, 149 P14.7, 150 P14.8, 151 P14.9, 152 P14.10, 153 VEXT, 154 VDDP3, 155 VDDFL3, 156 P13.0, 157 P13.1, 158 P13.2, 159 P13.3, 160 P11.2, 161 P11.3, 162 P11.6, 163 P11.9, 164 VFLEX, 165 P11.10, 166 P11.11, 167 P11.12, 168 P10.0, 169 P10.1, 170 P10.2, 171 P10.3, 172 P10.4, 173 P10.5, 174 P10.6, 175 P10.7, 176 P10.8, 177 EP

## TJA1050
designator *
pins: 1 TXD (power), 2 GND (power), 3 VCC (power), 4 RXD (power), 5 VREF (power), 6 CAN_L (power), 7 CAN_H (power), 8 S (power)

## TL431
designator TL431?
pins: 1 CATH (power), 2 NC (power), 3 NC (power), 4 NC (power), 5 NC (power), 6 ANODE (power), 7 NC (power), 8 REF (power)

## TLE4270-2D-TO252-5
designator *
pins: 1 I (power), 2 RO (power), 3 GND (power), 4 D (power), 5 Q (power)

## TLE4471G
designator *
footprint SOP20-TLE6220GP
pins: 1 GND (power), 2 E1 (in), 3 IN (in), 4 Q2 (out), 5 REF2 (power), 6 R (power), 7 DR (in), 8 E2 (in), 9 Q1 (out), 10 GND (power), 11 GND (power), 12 RADJ (in), 13 NC (power), 14 EN (in), 15 REF3 (out), 16 E3 (in), 17 Q3 (out), 18 W (power), 19 DW (power), 20 GND (power)

## TLE6240GP
designator *
pins: 1 GND (power), 2 OUT9 (out), 3 OUT10 (out), 4 OUT1 (out), 5 OUT2 (out), 6 IN1 (in), 7 IN2 (in), 8 VS (power), 9 RESET (power), 10 CS (power), 11 PRG (power), 12 IN3 (in), 13 IN4 (in), 14 OUT3 (out), 15 OUT4 (out), 16 OUT11 (out), 17 OUT12 (out), 18 GND (power), 19 GND (power), 20 OUT13 (out), 21 OUT14 (out), 22 OUT5 (out), 23 OUT6 (out), 24 IN9 (in), 25 IN10 (in), 26 FAULT (power), 27 SO (out), 28 SCLK (in), 29 SI (in), 30 IN11 (in), 31 IN12 (in), 32 OUT7 (out), 33 OUT8 (out), 34 OUT15 (out), 35 OUT16 (out), 36 GND (power)

## TLE8080
designator TLE8080*  (value not drawn)
pins: 1 KIO (power), 2 VS (power), 3 OUT5 (out), 4 OUT4 (out), 5 OUT3 (power), 6 PGND (power), 7 OUT2 (out), 8 OUT1 (out), 9 PGND (power), 10 VR_IN1 (in), 11 VR_IN2 (in), 12 WD_DIS (power), 13 VR_OUT (out), 14 SO (in), 15 SI (out), 16 SCLK (in), 17 CSN (in), 18 IN1 (in), 19 IN3 (in), 20 NRO (power), 21 V5DD (power), 22 AGND (power), 23 RX (power), 24 TX (power)

## TLE8104E/TLE6220
designator TLE8104E/TLE6220?
pins: 1 GND (power), 2 IN2 (in), 3 OUT1 (out), 4 VS (power), 5 RESET (power), 6 CS (power), 7 PRG (power), 8 OUT2 (out), 9 IN1 (in), 10 GND (power), 11 GND (power), 12 IN4 (in), 13 OUT3 (out), 14 FAULT (power), 15 SO (out), 16 SCLK (in), 17 SI (in), 18 OUT4 (out), 19 IN3 (in), 20 GND (power)

## TLE8110EE
designator *
pins: 1 GND (power), 2 P_IN1 (in), 3 P_IN2 (in), 4 EN (power), 5 RST (power), 6 P_IN3 (in), 7 P_IN4 (in), 8 VDD (power), 9 P_IN5 (in), 10 VCC (power), 11 S_SO (out), 12 S_CLK (in), 13 S_CS (in), 14 S_SI (in), 15 P_IN6 (in), 16 P_IN7 (in), 17 P_IN8 (in), 18 GND (power), 19 GND (power), 20 OUT9   (out), 21 OUT10 (out), 22 NC (power), 23 GND (out), 24 OUT6 (out), 25 OUT4 (out), 26 OUT3 (out), 27 P_IN9   (in), 28 P_IN10 (in), 29 OUT2 (out), 30 OUT1 (out), 31 OUT5 (out), 32 GND (power), 33 NC (power), 34 OUT8 (out), 35 OUT7 (out), 36 GND (power)

## TLE8386-2EL
designator TLE8386-2EL?
pins: 1 IVCC (power), 2 SWO (out), 3 SGND (in), 4 SWCS (in), 5 SST (in), 6 FB (in), 7 NC (power), 8 COMP (in), 9 NC (power), 10 SYNC (in), 11 FREQ (in), 12 GND (power), 13 EN (in), 14 IN (power)

## TLE9104
designator TLE9104  (value not drawn)
footprint SOP20-TLE9104
pins: 1 OUT1 (out), 2 GND (power), 3 IN1 (in), 4 IN3 (in), 5 SO (power), 6 SI (power), 7 CSN (power), 8 SCK (power), 9 GND (power), 10 OUT3 (out), 11 OUT4 (out), 12 GND (power), 13 RESN (in), 14 EN (in), 15 VIO (power), 16 VDD (power), 17 IN4 (in), 18 IN2 (in), 19 GND (power), 20 OUT2 (out)

## TPS7A3001
designator *
pins: 1 OUT (power), 2 FB (power), 3 NC (power), 4 GND (power), 5 EN (power), 6 NR/SS (power), 7 DNC (power), 8 IN (power)

## TPS7A4501-12V
designator *
pins: 1 SHDN (power), 2 IN (power), 3 GND (power), 4 OUT (power), 5 SENSE/ADJ (power)

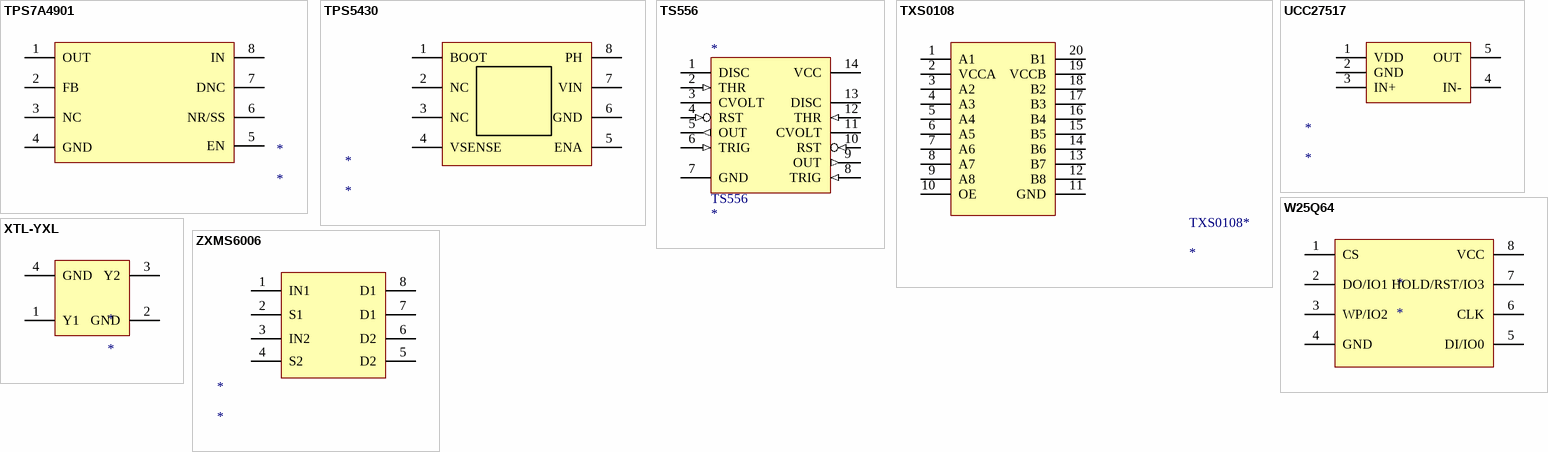
[diagram p7: symbols TPS7A4901 to ZXMS6006]

## TPS7A4901
designator *
pins: 1 OUT (power), 2 FB (power), 3 NC (power), 4 GND (power), 5 EN (power), 6 NR/SS (power), 7 DNC (power), 8 IN (power)

## TPS5430
designator *
pins: 1 BOOT (power), 2 NC (power), 3 NC (power), 4 VSENSE (power), 5 ENA (power), 6 GND (power), 7 VIN (power), 8 PH (power)

## TS556
designator *
pins: 1 DISC (oc), 2 THR (in), 3 CVOLT, 4 RST (in), 5 OUT (out), 6 TRIG (in), 7 GND (power), 8 TRIG (in), 9 OUT (out), 10 RST (in), 11 CVOLT, 12 THR (in), 13 DISC (oc), 14 VCC (power)

## TXS0108
designator TXS0108*
pins: 1 A1 (power), 2 VCCA (power), 3 A2 (power), 4 A3 (power), 5 A4 (power), 6 A5 (power), 7 A6 (power), 8 A7 (power), 9 A8 (power), 10 OE (power), 11 GND (power), 12 B8 (power), 13 B7 (power), 14 B6 (power), 15 B5 (power), 16 B4 (power), 17 B3 (power), 18 B2 (power), 19 VCCB (power), 20 B1 (power)

## UCC27517
designator *
pins: 1 VDD (power), 2 GND (power), 3 IN+ (power), 4 IN- (power), 5 OUT (power)

## W25Q64
designator *
pins: 1 CS (power), 2 DO/IO1 (power), 3 WP/IO2 (power), 4 GND (power), 5 DI/IO0 (power), 6 CLK (power), 7 HOLD/RST/IO3 (power), 8 VCC (power)

## XTL-YXL
designator *
pins: 1 Y1 (power), 2 GND (power), 3 Y2 (power), 4 GND (power)

## ZXMS6006
designator *
pins: 1 IN1 (power), 2 S1 (power), 3 IN2 (power), 4 S2 (power), 5 D2 (power), 6 D2 (power), 7 D1 (power), 8 D1 (power)